# Altium schematic symbol library TRANS-PNP-ECB.SCHLIB: 1 symbol
Pins are listed as number, name and electrical type; pins without a type are passive.

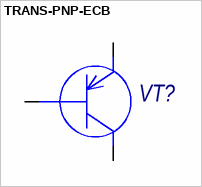
[diagram p0: symbol TRANS-PNP-ECB]

## TRANS-PNP-ECB
designator VT?
pins: 1 E, 2 C, 3 B